# Altium integrated library WE-TVS_rev16a.intlib: 19 symbols
Pins are listed as number, name and electrical type; pins without a type are passive.

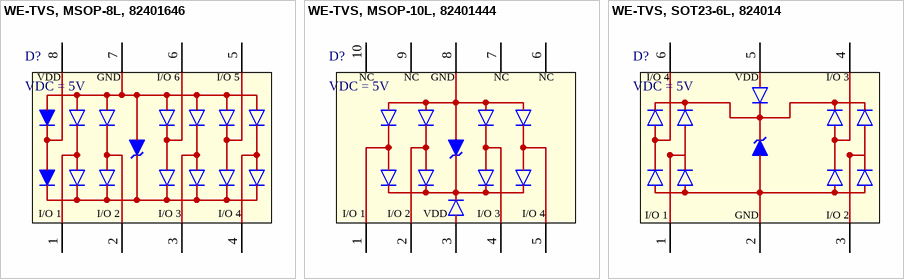
[diagram p0: symbols WE-TVS, MSOP-8L, 82401646 to WE-TVS, SOT23-6L, 824014]

## WE-TVS, MSOP-8L, 82401646
designator D?, comment VDC = 5V
WE-TVS TVS Diode, Super Speed Series, MSOP-8L, VDC = 5V; PartNo: 82401646; Manufacturer: Wurth Elektronik; VDC: 5V; ComponentLink1Description: Manufacturer; ComponentLink1URL: http://www.we-online.de; Created by: BJ.Chen; Created Date: Jan 2016; ComponentLink2Description: Datasheet; ComponentLink2URL: http://katalog.we-online.de/pbs/datasheet/82401646.pdf
footprint MSOP-8L
pins: 1 I/O 1, 2 I/O 2, 3 I/O 3, 4 I/O 4, 5 I/O 5, 6 I/O 6, 7 GND, 8 VDD

## WE-TVS, MSOP-10L, 82401444
designator D?, comment VDC = 5V
WE-TVS TVS Diode, Super Speed Series, MSOP-10L, VDC = 5V; PartNo: 82401444; Manufacturer: Wurth Elektronik; VDC: 5V; ComponentLink1Description: Manufacturer; ComponentLink1URL: http://www.we-online.de; Created by: BJ.Chen; Created Date: Jan 2016; ComponentLink2Description: Datasheet; ComponentLink2URL: http://katalog.we-online.de/pbs/datasheet/82401444.pdf
footprint MSOP-10L
pins: 1 I/O 1, 2 I/O 2, 3 VDD, 4 I/O 3, 5 I/O 4, 6 NC, 7 NC, 8 GND, 9 NC, 10 NC

## WE-TVS, SOT23-6L, 824014
designator D?, comment VDC = 5V
WE-TVS TVS Diode, Super Speed Series, SOT23-6L, VDC = 5V; PartNo: 824014; Manufacturer: Wurth Elektronik; VDC: 5V; ComponentLink1Description: Manufacturer; ComponentLink1URL: http://www.we-online.de; Created by: BJ.Chen; Created Date: Jan 2016; ComponentLink2Description: Datasheet; ComponentLink2URL: http://katalog.we-online.de/pbs/datasheet/824014.pdf
footprint SOT23-6L
pins: 1 I/O 1, 2 GND, 3 I/O 2, 4 I/O 3, 5 VDD, 6 I/O 4


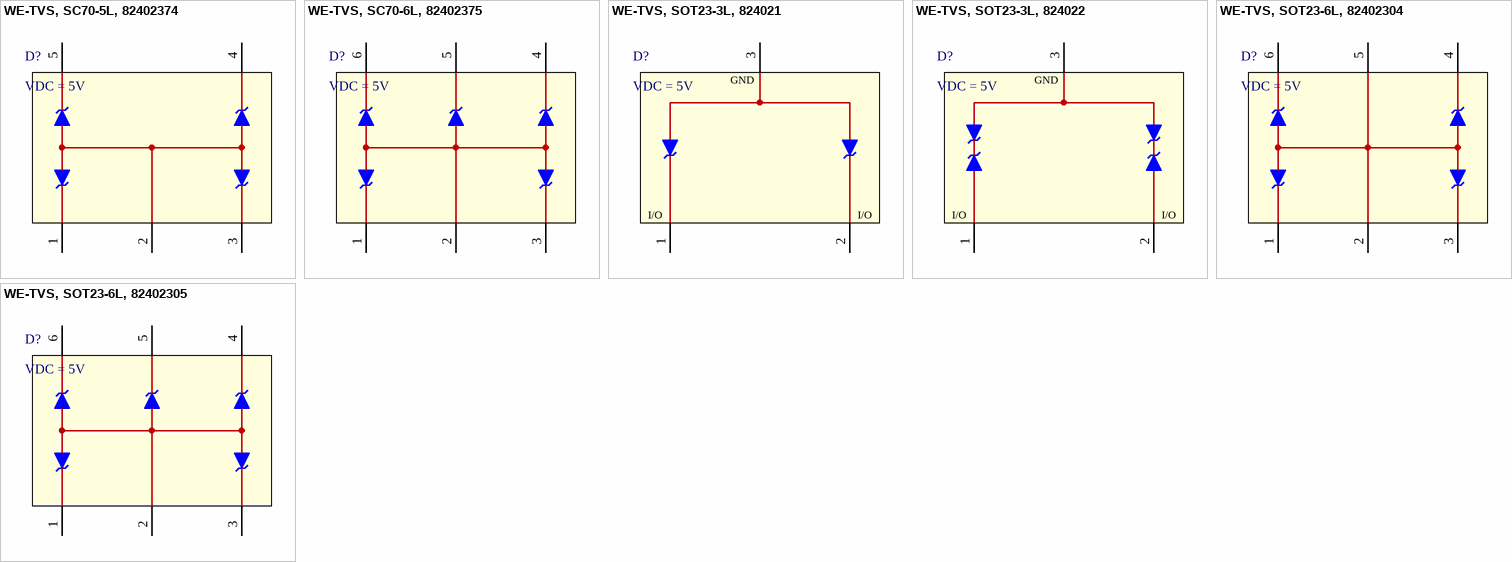
[diagram p1: symbols WE-TVS, SC70-5L, 82402374 to WE-TVS, SOT23-6L, 82402305]

## WE-TVS, SC70-5L, 82402374
designator D?, comment VDC = 5V
WE-TVS TVS Diode, Standard Series, SC70-5L, VDC = 5V; PartNo: 82402374; Manufacturer: Wurth Elektronik; VDC: 5V; ComponentLink1Description: Manufacturer; ComponentLink1URL: http://www.we-online.de; Created by: BJ.Chen; Created Date: Jan 2016; ComponentLink2Description: Datasheet; ComponentLink2URL: http://katalog.we-online.de/pbs/datasheet/82402374.pdf
footprint SC70-5L
pins: 1, 2, 3, 4, 5

## WE-TVS, SC70-6L, 82402375
designator D?, comment VDC = 5V
WE-TVS TVS Diode, Standard Series, SC70-6L, VDC = 5V; PartNo: 82402375; Manufacturer: Wurth Elektronik; VDC: 5V; ComponentLink1Description: Manufacturer; ComponentLink1URL: http://www.we-online.de; Created by: BJ.Chen; Created Date: Jan 2016; ComponentLink2Description: Datasheet; ComponentLink2URL: http://katalog.we-online.de/pbs/datasheet/82402375.pdf
footprint SC70-6L
pins: 1, 2, 3, 4, 5, 6

## WE-TVS, SOT23-3L, 824021
designator D?, comment VDC = 5V
WE-TVS TVS Diode, Standard Series, SOT23-3L, VDC = 5V; PartNo: 824021; Manufacturer: Wurth Elektronik; VDC: 5V; ComponentLink1Description: Manufacturer; ComponentLink1URL: http://www.we-online.de; Created by: BJ.Chen; Created Date: Jan 2016; ComponentLink2Description: Datasheet; ComponentLink2URL: http://katalog.we-online.de/pbs/datasheet/824021.pdf
footprint SOT23-3L
pins: 1 I/O, 2 I/O, 3 GND

## WE-TVS, SOT23-3L, 824022
designator D?, comment VDC = 5V
WE-TVS TVS Diode, Standard Series, SOT23-3L, VDC = 5V; PartNo: 824022; Manufacturer: Wurth Elektronik; VDC: 5V; ComponentLink1Description: Manufacturer; ComponentLink1URL: http://www.we-online.de; Created by: BJ.Chen; Created Date: Jan 2016; ComponentLink2Description: Datasheet; ComponentLink2URL: http://katalog.we-online.de/pbs/datasheet/824022.pdf
footprint SOT23-3L
pins: 1 I/O, 2 I/O, 3 GND

## WE-TVS, SOT23-6L, 82402304
designator D?, comment VDC = 5V
WE-TVS TVS Diode, Standard Series, SOT23-6L, VDC = 5V; PartNo: 82402304; Manufacturer: Wurth Elektronik; VDC: 5V; ComponentLink1Description: Manufacturer; ComponentLink1URL: http://www.we-online.de; Created by: BJ.Chen; Created Date: Jan 2016; ComponentLink2Description: Datasheet; ComponentLink2URL: http://katalog.we-online.de/pbs/datasheet/82402304.pdf
footprint SOT23-6L
pins: 1, 2, 3, 4, 5, 6

## WE-TVS, SOT23-6L, 82402305
designator D?, comment VDC = 5V
WE-TVS TVS Diode, Standard Series, SOT23-6L, VDC = 5V; PartNo: 82402305; Manufacturer: Wurth Elektronik; VDC: 5V; ComponentLink1Description: Manufacturer; ComponentLink1URL: http://www.we-online.de; Created by: BJ.Chen; Created Date: Jan 2016; ComponentLink2Description: Datasheet; ComponentLink2URL: http://katalog.we-online.de/pbs/datasheet/82402305.pdf
footprint SOT23-6L
pins: 1, 2, 3, 4, 5, 6


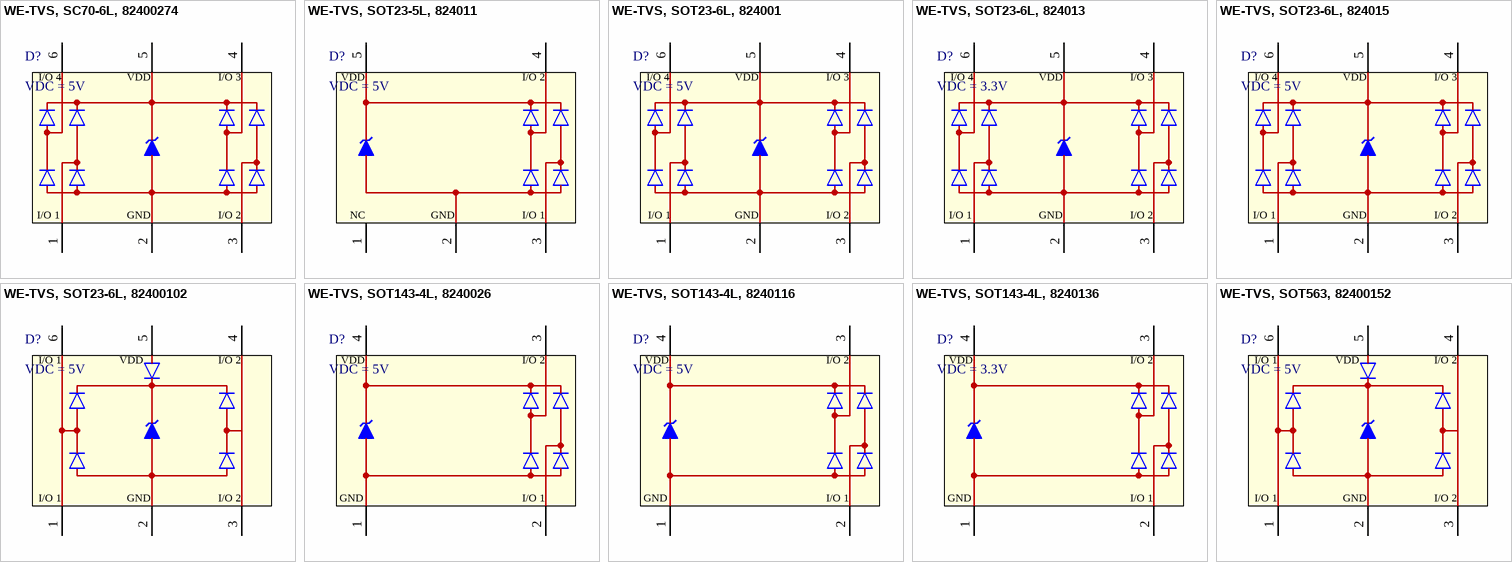
[diagram p2: symbols WE-TVS, SC70-6L, 82400274 to WE-TVS, SOT563, 82400152]

## WE-TVS, SC70-6L, 82400274
designator D?, comment VDC = 5V
WE-TVS TVS Diode, High Speed Series, SC70-6L, VDC = 5V; PartNo: 82400274; Manufacturer: Wurth Elektronik; VDC: 5V; ComponentLink1Description: Manufacturer; ComponentLink1URL: http://www.we-online.de; Created by: BJ.Chen; Created Date: Jan 2016; ComponentLink2Description: Datasheet; ComponentLink2URL: http://katalog.we-online.de/pbs/datasheet/82400274.pdf
footprint SC70-6L
pins: 1 I/O 1, 2 GND, 3 I/O 2, 4 I/O 3, 5 VDD, 6 I/O 4

## WE-TVS, SOT23-5L, 824011
designator D?, comment VDC = 5V
WE-TVS TVS Diode, High Speed Series, SOT23-5L, VDC = 5V; PartNo: 824011; Manufacturer: Wurth Elektronik; VDC: 5V; ComponentLink1Description: Manufacturer; ComponentLink1URL: http://www.we-online.de; Created by: BJ.Chen; Created Date: Jan 2016; ComponentLink2Description: Datasheet; ComponentLink2URL: http://katalog.we-online.de/pbs/datasheet/824011.pdf
footprint SOT23-5L
pins: 1 NC, 2 GND, 3 I/O 1, 4 I/O 2, 5 VDD

## WE-TVS, SOT23-6L, 824001
designator D?, comment VDC = 5V
WE-TVS TVS Diode, High Speed Series, SOT23-6L, VDC = 5V; PartNo: 824001; Manufacturer: Wurth Elektronik; VDC: 5V; ComponentLink1Description: Manufacturer; ComponentLink1URL: http://www.we-online.de; Created by: BJ.Chen; Created Date: Jan 2016; ComponentLink2Description: Datasheet; ComponentLink2URL: http://katalog.we-online.de/pbs/datasheet/824001.pdf
footprint SOT23-6L
pins: 1 I/O 1, 2 GND, 3 I/O 2, 4 I/O 3, 5 VDD, 6 I/O 4

## WE-TVS, SOT23-6L, 824013
designator D?, comment VDC = 3.3V
WE-TVS TVS Diode, High Speed Series, SOT23-6L, VDC = 3.3V; PartNo: 824013; Manufacturer: Wurth Elektronik; VDC: 3.3V; ComponentLink1Description: Manufacturer; ComponentLink1URL: http://www.we-online.de; Created by: BJ.Chen; Created Date: Jan 2016; ComponentLink2Description: Datasheet; ComponentLink2URL: http://katalog.we-online.de/pbs/datasheet/824013.pdf
footprint SOT23-6L
pins: 1 I/O 1, 2 GND, 3 I/O 2, 4 I/O 3, 5 VDD, 6 I/O 4

## WE-TVS, SOT23-6L, 824015
designator D?, comment VDC = 5V
WE-TVS TVS Diode, High Speed Series, SOT23-6L, VDC = 5V; PartNo: 824015; Manufacturer: Wurth Elektronik; VDC: 5V; ComponentLink1Description: Manufacturer; ComponentLink1URL: http://www.we-online.de; Created by: BJ.Chen; Created Date: Jan 2016; ComponentLink2Description: Datasheet; ComponentLink2URL: http://katalog.we-online.de/pbs/datasheet/824015.pdf
footprint SOT23-6L
pins: 1 I/O 1, 2 GND, 3 I/O 2, 4 I/O 3, 5 VDD, 6 I/O 4

## WE-TVS, SOT23-6L, 82400102
designator D?, comment VDC = 5V
WE-TVS TVS Diode, High Speed Series, SOT23-6L, VDC = 5V; PartNo: 82400102; Manufacturer: Wurth Elektronik; VDC: 5V; ComponentLink1Description: Manufacturer; ComponentLink1URL: http://www.we-online.de; Created by: BJ.Chen; Created Date: Jan 2016; ComponentLink2Description: Datasheet; ComponentLink2URL: http://katalog.we-online.de/pbs/datasheet/82400102.pdf
footprint SOT23-6L
pins: 1 I/O 1, 2 GND, 3 I/O 2, 4 I/O 2, 5 VDD, 6 I/O 1

## WE-TVS, SOT143-4L, 8240026
designator D?, comment VDC = 5V
WE-TVS TVS Diode, High Speed Series, SOT143-4L, VDC = 5V; PartNo: 8240026; Manufacturer: Wurth Elektronik; VDC: 5V; ComponentLink1Description: Manufacturer; ComponentLink1URL: http://www.we-online.de; Created by: BJ.Chen; Created Date: Jan 2016; ComponentLink2Description: Datasheet; ComponentLink2URL: http://katalog.we-online.de/pbs/datasheet/8240026.pdf
footprint SOT143-4L_8240026
pins: 1 GND, 2 I/O 1, 3 I/O 2, 4 VDD

## WE-TVS, SOT143-4L, 8240116
designator D?, comment VDC = 5V
WE-TVS TVS Diode, High Speed Series, SOT143-4L, VDC = 5V; PartNo: 8240116; Manufacturer: Wurth Elektronik; VDC: 5V; ComponentLink1Description: Manufacturer; ComponentLink1URL: http://www.we-online.de; Created by: BJ.Chen; Created Date: Jan 2016; ComponentLink2Description: Datasheet; ComponentLink2URL: http://katalog.we-online.de/pbs/datasheet/8240116.pdf
footprint SOT143-4L_8240116
pins: 1 GND, 2 I/O 1, 3 I/O 2, 4 VDD

## WE-TVS, SOT143-4L, 8240136
designator D?, comment VDC = 3.3V
WE-TVS TVS Diode, High Speed Series, SOT143-4L, VDC = 3.3V; PartNo: 8240136; Manufacturer: Wurth Elektronik; VDC: 3.3V; ComponentLink1Description: Manufacturer; ComponentLink1URL: http://www.we-online.de; Created by: BJ.Chen; Created Date: Jan 2016; ComponentLink2Description: Datasheet; ComponentLink2URL: http://katalog.we-online.de/pbs/datasheet/8240136.pdf
footprint SOT143-4L_8240136
pins: 1 GND, 2 I/O 1, 3 I/O 2, 4 VDD

## WE-TVS, SOT563, 82400152
designator D?, comment VDC = 5V
WE-TVS TVS Diode, High Speed Series, SOT563, VDC = 5V; PartNo: 82400152; Manufacturer: Wurth Elektronik; VDC: 5V; ComponentLink1Description: Manufacturer; ComponentLink1URL: http://www.we-online.de; Created by: BJ.Chen; Created Date: Jan 2016; ComponentLink2Description: Datasheet; ComponentLink2URL: http://katalog.we-online.de/pbs/datasheet/82400152.pdf
footprint SOT563
pins: 1 I/O 1, 2 GND, 3 I/O 2, 4 I/O 2, 5 VDD, 6 I/O 1